# Altium schematic symbol library ISO6721FQDWVRQ1.SchLib: 1 symbol
Pins are listed as number, name and electrical type; pins without a type are passive.

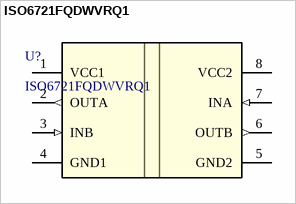
[diagram p0: symbol ISO6721FQDWVRQ1]

## ISO6721FQDWVRQ1
designator U?
Automotive, general-purpose, dual-channel, 1/1 digital isolator 8-SOIC -40 to 125; Manufacturer_Name: Texas Instruments; TYPE: TYPE; RefDes: RefDes; Copyright: Copyright (C) 2026 Ultra Librarian. All rights reserved.; Manufacturer_Part_Number: ISO6721FQDWVRQ1; Datasheet: https://www.ti.com/lit/gpn/iso6721-q1
footprint DWV0008A-IPC_A
pins: 1 VCC1 (power), 2 OUTA (out), 3 INB (in), 4 GND1 (power), 5 GND2 (power), 6 OUTB (out), 7 INA (in), 8 VCC2 (power)